# Altium integrated library TACR106K016XTA.IntLib: 1 symbol
Pins are listed as number, name and electrical type; pins without a type are passive.

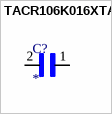
[diagram p0: symbol TACR106K016XTA]

## TACR106K016XTA
designator C?
Cap Tant Solid 10uF 16V R CASE 10% (2 X 1.35 X 1.35mm) SMD 2012-15 5 Ohm 125ÂÂŽ T/R; MP: TACR106K016XTA; Package: None; Price: None; Value: *; Availability: Unavailable
footprint CAPC2012X140N
pins: 1, 2